# Altium footprint library DIONC1005X43N.PcbLib: 1 footprints
Each footprint in its own frame and in the unit in brackets; x right, y up, seen from the top. Pads: shape width x height; smd on the part's side, far side on the other; paste and mask are expansions set on the pad; w line width, h text height; cw(c..) or ccw(c..) is an arc to the next point about the centre after c.
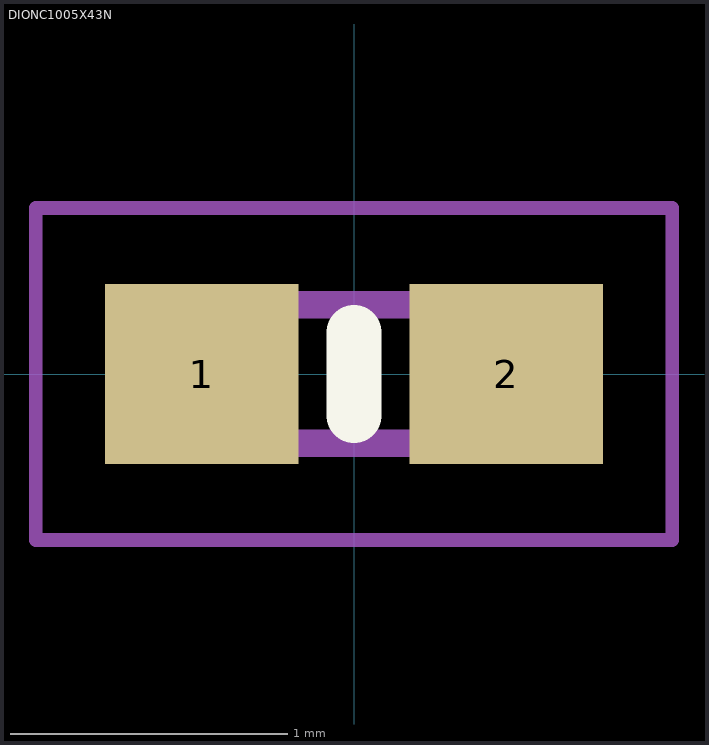
[diagram p0: the footprint, top view; thin cyan lines are the x and y axes]

## DIONC1005X43N [mm]
pads (2):
  rect 0.7x0.65 smd: 1(-0.55,0) 2(0.55,0)
Top Overlay:
  lines w0.2: 0,-0.15 0,0.15
Mechanical 15:
  lines w0.1: -0.5,-0.25 0.5,-0.25 0.5,0.25 -0.5,0.25 -0.5,-0.25
Mechanical 20:
  lines w0.05: -1.15,-0.6 1.15,-0.6 1.15,0.6 -1.15,0.6 -1.15,-0.6